# EAGLE library part FYD-3621AS (library _mtvt.led)
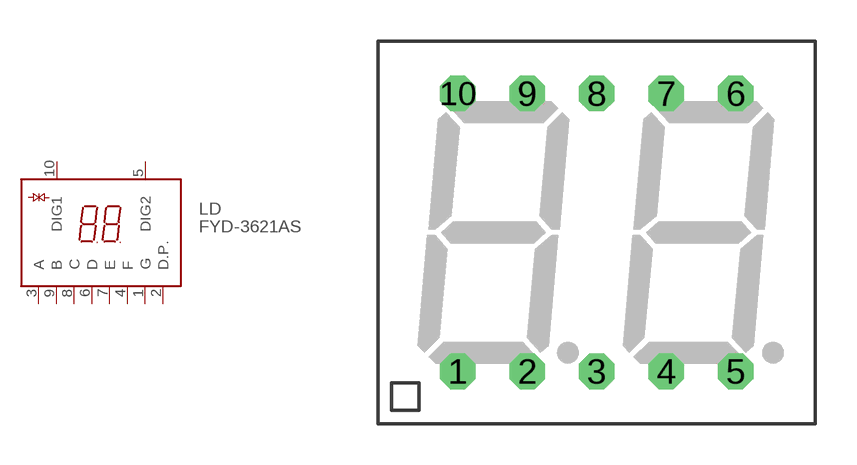
[diagram p1: symbol with the pads of 7SEG-2DIG-14X15MM; footprint 7SEG-2DIG-14X15MM]

Designator prefix LD

## FYD-3621AS  [7SEG-2DIG-14X15MM]
1  G
2  D.P.
3  A
4  F
5  DIG2
6  D
7  E
8  C
9  B
10  DIG1

## Footprint 7SEG-2DIG-14X15MM (pad centres in mm)
drill 0.8 octagon: 1 -5.08,-5.08; 2 -2.54,-5.08; 3 0,-5.08; 4 2.54,-5.08; 5 5.08,-5.08; 6 5.08,5.08; 7 2.54,5.08; 8 0,5.08; 9 -2.54,5.08; 10 -5.08,5.08